# EAGLE library part 74HC595PW (library tecsmith_keyboards)
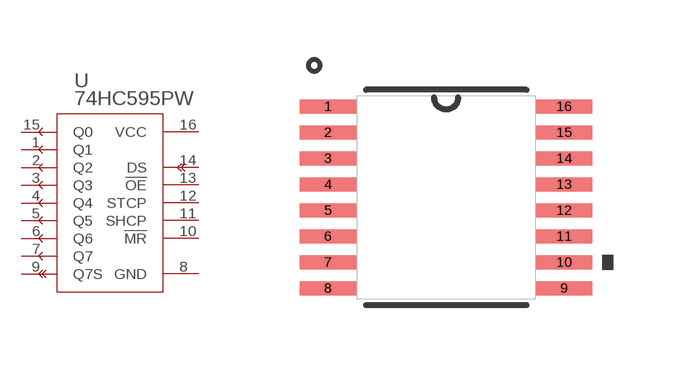
[diagram p3: symbol with the pads of TSSOP16; footprint TSSOP16]

Designator prefix U

## 74HC595PW  [TSSOP16]
1  Q1  pas
2  Q2  pas
3  Q3  pas
4  Q4  pas
5  Q5  pas
6  Q6  pas
7  Q7  pas
8  GND  pas
9  Q7S  pas
10  !MR  pas
11  SHCP  pas
12  STCP  pas
13  !OE  pas
14  DS  pas
15  Q0  pas
16  VCC  pas

## Footprint TSSOP16 (pad centres in mm)
smd 1.408 x 0.356: 1 -2.952,2.275; 2 -2.952,1.625; 3 -2.952,0.975; 4 -2.952,0.325; 5 -2.952,-0.325; 6 -2.952,-0.975; 7 -2.952,-1.625; 8 -2.952,-2.275; 9 2.952,-2.275; 10 2.952,-1.625; 11 2.952,-0.975; 12 2.952,-0.325; 13 2.952,0.325; 14 2.952,0.975; 15 2.952,1.625; 16 2.952,2.275